# EAGLE library part 20021321-00010C4LF (library aqm-parts)
Conn; Rect; B-to-B; Receptacle; SMT; 10Pos; 1.27 x 1.27 mm
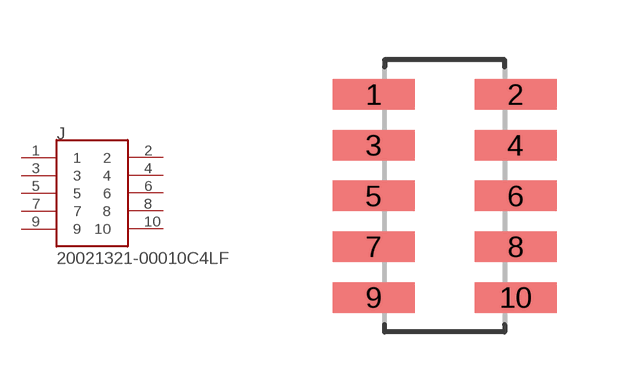
[diagram p1: symbol with the pads of AMPHENOL_20021321-00010C4LF; footprint AMPHENOL_20021321-00010C4LF]

Designator prefix J

## 20021321-00010C4LF (DESCRIPTION: 10 Position Receptacle Connector Surface Mount; DIGI-KEY_PART_NUMBER: 609-3706-1-ND; DIGI-KEY_PURCHASE_URL: https://www.digikey.com/product-detail/en/amphenol-icc-fci/20021321-00010C4LF/609-3706-1-ND/2209151?utm_source=snapeda&utm_medium=aggregator&utm_campaign=symbol; MF: Amphenol ICC; MP: 20021321-00010C4LF; PACKAGE: None)  [AMPHENOL_20021321-00010C4LF]
1  1  pas
2  2  pas
3  3  pas
4  4  pas
5  5  pas
6  6  pas
7  7  pas
8  8  pas
9  9  pas
10  10  pas

## Footprint AMPHENOL_20021321-00010C4LF (pad centres in mm)
smd 2.05 x 0.76: 1 -1.775,2.54; 2 1.775,2.54; 3 -1.775,1.27; 4 1.775,1.27; 5 -1.775,0; 6 1.775,0; 7 -1.775,-1.27; 8 1.775,-1.27; 9 -1.775,-2.54; 10 1.775,-2.54